# Altium footprint library HC49S-3.PcbLib: 1 footprints
Each footprint in its own frame and in the unit in brackets; x right, y up, seen from the top. Pads: shape width x height; smd on the part's side, far side on the other; paste and mask are expansions set on the pad; w line width, h text height; cw(c..) or ccw(c..) is an arc to the next point about the centre after c.
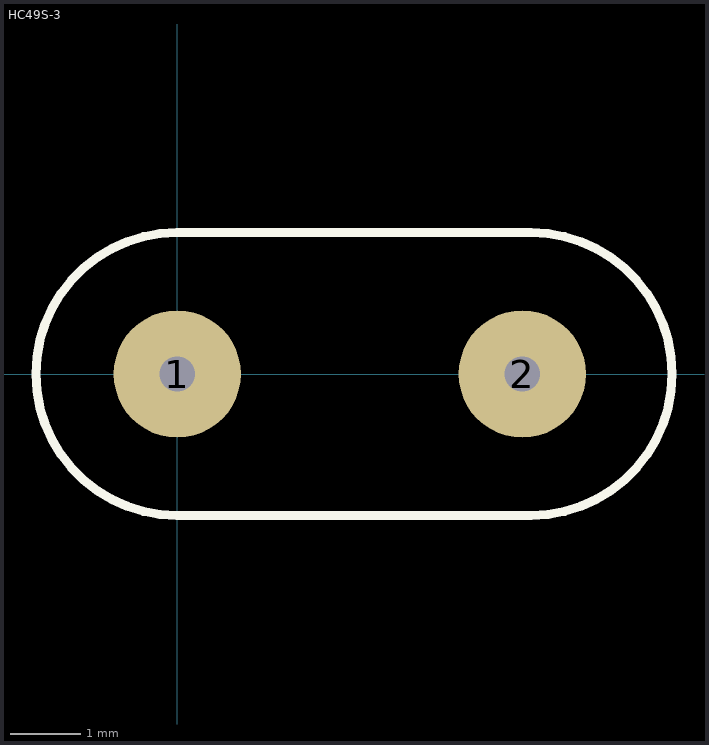
[diagram p0: the footprint, top view; thin cyan lines are the x and y axes]

## HC49S-3 [mm]
pads (2):
  round 1.8 hole 0.5: 1(0,0) 2(4.88,0)
Top Overlay:
  lines w0.127: 0,-2 cw(c0,0) 0,2 5,2 cw(c5,0) 5,-2 0,-2